# Altium footprint library SAMTEC_TD-103-G-A.PcbLib: 1 footprints
Each footprint in its own frame and in the unit in brackets; x right, y up, seen from the top. Pads: shape width x height; smd on the part's side, far side on the other; paste and mask are expansions set on the pad; w line width, h text height; cw(c..) or ccw(c..) is an arc to the next point about the centre after c.
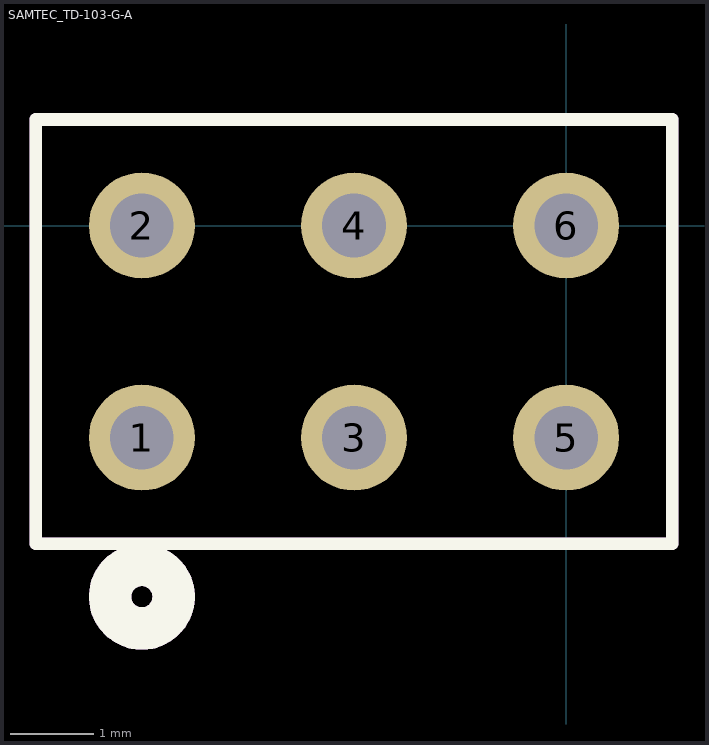
[diagram p0: the footprint, top view; thin cyan lines are the x and y axes]

## SAMTEC_TD-103-G-A [mil]
pads (6):
  round 50 hole 30: 1(-200,-100) 2(-200,0) 3(-100,-100) 4(-100,0) 5(0,-100) 6(0,0)
Top Overlay:
  lines w6: -250,-150 50,-150 50,50 -250,50 -250,-150
  lines w20: -215,-175 ccw(c-200,-175) -185,-175 ccw(c-200,-175) -215,-175
Mechanical 13:
  lines w6: -250,-150 50,-150 50,50 -250,50 -250,-150
  lines w20: -215,-175 ccw(c-200,-175) -185,-175 ccw(c-200,-175) -215,-175